# Altium footprint library SIT9102AI-243N33E200P00000X.PcbLib: 3 footprints
Each footprint in its own frame and in the unit in brackets; x right, y up, seen from the top. Pads: shape width x height; smd on the part's side, far side on the other; paste and mask are expansions set on the pad; w line width, h text height; cw(c..) or ccw(c..) is an arc to the next point about the centre after c.
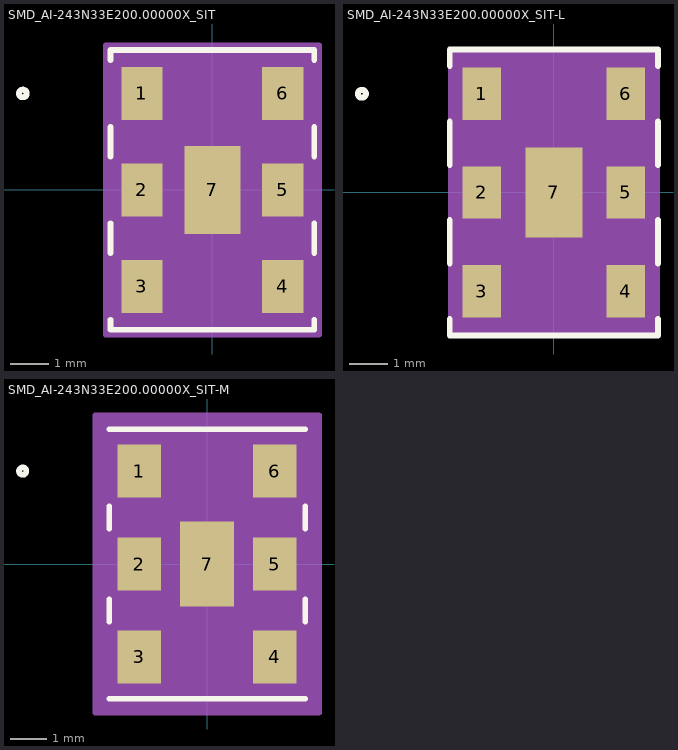
[diagram p0: the footprints below, top view; thin cyan lines are the x and y axes]

## SMD_AI-243N33E200.00000X_SIT [mil]
pads (7):
  rect 43x55 smd paste+0 mask+0: 1(-72.99,100) 2(-72.99,0) 3(-72.99,-100) 4(72.99,-100) 5(72.99,0) 6(72.99,100)
  rect 58x91 smd paste+0 mask+0: 7(0,0)
Top Overlay:
  circle w6: c-196.49,100 r4
  lines w6: -105.5,-134.6 -105.5,-145 105.5,-145 105.5,-134.6 ; -105.5,-65.4 -105.5,-34.6 ; -105.5,34.6 -105.5,65.4 ; -105.5,134.6 -105.5,145 105.5,145 105.5,134.6 ; 105.5,-65.4 105.5,-34.6 ; 105.5,34.6 105.5,65.4
Mechanical 13:
  circle w0: c-51.49,100 r3
  lines w0: -12,140 ccw(c0,140) 12,140
  lines w1: -100.5,-140 100.5,-140 100.5,140 -100.5,140 -100.5,-140
Mechanical 15:
  region: -110.5,-137.5 -110.5,137.5 -110.5,150 110.5,150 110.5,137.5 110.5,-137.5 110.5,-150 -110.5,-150
  lines w6: -110.5,-137.5 -110.5,137.5 ; -110.5,-137.5 -110.5,-137.5 ; -110.5,-137.5 -110.5,-150 110.5,-150 110.5,-137.5 ; -110.5,137.5 -110.5,137.5 ; -110.5,137.5 -110.5,150 110.5,150 110.5,137.5 ; 110.5,-137.5 110.5,137.5 ; 110.5,-137.5 110.5,-137.5 ; 110.5,137.5 110.5,137.5
3D body "SMD_AI-243N33E20000000X_SIT.step": height 32.09, standoff 0, extent -100.51,-140 100.51,140

## SMD_AI-243N33E200.00000X_SIT-L [mil]
pads (7):
  rect 39x53 smd paste+0 mask+0: 1(-72.99,100) 2(-72.99,0) 3(-72.99,-100) 4(72.99,-100) 5(72.99,0) 6(72.99,100)
  rect 58x91 smd paste+0 mask+0: 7(0,0)
Top Overlay:
  circle w6: c-194.49,100 r4
  lines w6: -105.5,-128.02 -105.5,-145 105.5,-145 105.5,-128.02 ; -105.5,-71.98 -105.5,-28.02 ; -105.5,28.02 -105.5,71.98 ; -105.5,128.02 -105.5,145 105.5,145 105.5,128.02 ; 105.5,-71.98 105.5,-28.02 ; 105.5,28.02 105.5,71.98
Mechanical 13:
  circle w0: c-53.49,100 r3
  lines w0: -12,140 ccw(c0,140) 12,140
  lines w1: -100.5,-140 100.5,-140 100.5,140 -100.5,140 -100.5,-140
Mechanical 15:
  region: -104.5,-130.5 -104.5,130.5 -104.5,144 104.5,144 104.5,130.5 104.5,-130.5 104.5,-144 -104.5,-144
  lines w6: -104.5,-130.5 -104.5,130.5 ; -104.5,-130.5 -104.5,-130.5 ; -104.5,-130.5 -104.5,-144 104.5,-144 104.5,-130.5 ; -104.5,130.5 -104.5,130.5 ; -104.5,130.5 -104.5,144 104.5,144 104.5,130.5 ; 104.5,-130.5 104.5,130.5 ; 104.5,-130.5 104.5,-130.5 ; 104.5,130.5 104.5,130.5
3D body: height 10, standoff 0, extent 0,0 10,10

## SMD_AI-243N33E200.00000X_SIT-M [mil]
pads (7):
  rect 47x57 smd paste+0 mask+0: 1(-72.99,100) 2(-72.99,0) 3(-72.99,-100) 4(72.99,-100) 5(72.99,0) 6(72.99,100)
  rect 58x91 smd paste+0 mask+0: 7(0,0)
Top Overlay:
  circle w6: c-198.49,100 r4
  lines w6: -105.5,-145 105.5,-145 ; -105.5,-61.99 -105.5,-38.01 ; -105.5,38.01 -105.5,61.99 ; -105.5,145 105.5,145 ; 105.5,-61.99 105.5,-38.01 ; 105.5,38.01 105.5,61.99
Mechanical 13:
  circle w0: c-49.49,100 r3
  lines w0: -12,140 ccw(c0,140) 12,140
  lines w1: -100.5,-140 100.5,-140 100.5,140 -100.5,140 -100.5,-140
Mechanical 15:
  region: -120.5,-148.5 -120.5,148.5 -120.5,160 120.5,160 120.5,148.5 120.5,-148.5 120.5,-160 -120.5,-160
  lines w6: -120.5,-148.5 -120.5,148.5 ; -120.5,-148.5 -120.5,-148.5 ; -120.5,-148.5 -120.5,-160 120.5,-160 120.5,-148.5 ; -120.5,148.5 -120.5,148.5 ; -120.5,148.5 -120.5,160 120.5,160 120.5,148.5 ; 120.5,-148.5 120.5,148.5 ; 120.5,-148.5 120.5,-148.5 ; 120.5,148.5 120.5,148.5
3D body: height 10, standoff 0, extent 0,0 10,10